# EAGLE library part MCP6544 (library custom)
Comparator Quad Rail-to-Rail 1.6-5.5V 7mV 1pA 1uA
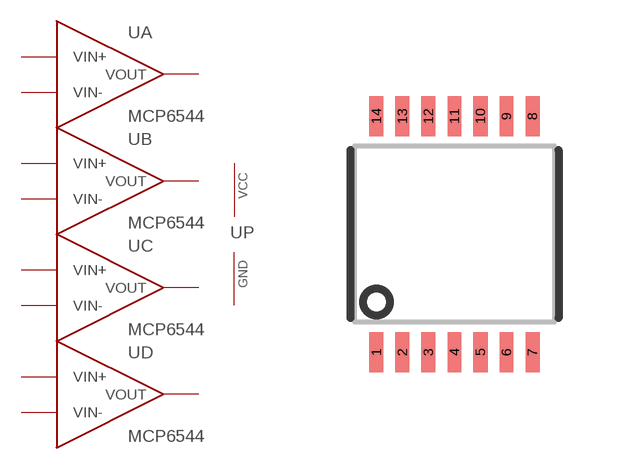
[diagram p103: symbol with the pads of 14-TSSOP; footprint 14-TSSOP]

Designator prefix U; gates A=OP-AMP B=OP-AMP C=OP-AMP D=OP-AMP P=PWRN

## MCP6544  [14-TSSOP]
1  A:VOUT
2  A:VIN-
3  A:VIN+
4  P:VCC  pwr
5  B:VIN+
6  B:VIN-
7  B:VOUT
8  C:VOUT
9  C:VIN-
10  C:VIN+
11  P:GND  pwr
12  D:VIN+
13  D:VIN-
14  D:VOUT

## Footprint 14-TSSOP (pad centres in mm)
smd 0.35 x 1: 1 -1.95,-2.95; 2 -1.3,-2.95; 3 -0.65,-2.95; 4 0,-2.95; 5 0.65,-2.95; 6 1.3,-2.95; 7 1.95,-2.95; 8 1.95,2.95; 9 1.3,2.95; 10 0.65,2.95; 11 0,2.95; 12 -0.65,2.95; 13 -1.3,2.95; 14 -1.95,2.95